# Altium schematic symbol library DG128-5.0-02P-14.SchLib: 1 symbol
Pins are listed as number, name and electrical type; pins without a type are passive.

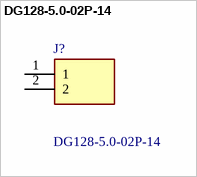
[diagram p0: symbol DG128-5.0-02P-14]

## DG128-5.0-02P-14
designator J?
PCB terminal block; angled; 5mm; ways: 2; on PCBs; 2.5mm2; terminal; Manufacturer_Name: Degson; Geometry.Height: 14.26mm; Manufacturer_Part_Number: DG128-5.0-02P-14; Mouser Part Number: *; Mouser Price/Stock: *; Arrow Part Number: *; Arrow Price/Stock: *; Datasheet Link: https://www.degson.com/index.php?a=downloadFile&id=1097383&name=%27ZmlsZTQ=%27&lang=en
footprint DG1285002P14
pins: 1, 2